# Altium footprint library CSCE2580 Series.PcbLib: 1 footprints
Each footprint in its own frame and in the unit in brackets; x right, y up, seen from the top. Pads: shape width x height; smd on the part's side, far side on the other; paste and mask are expansions set on the pad; w line width, h text height; cw(c..) or ccw(c..) is an arc to the next point about the centre after c.
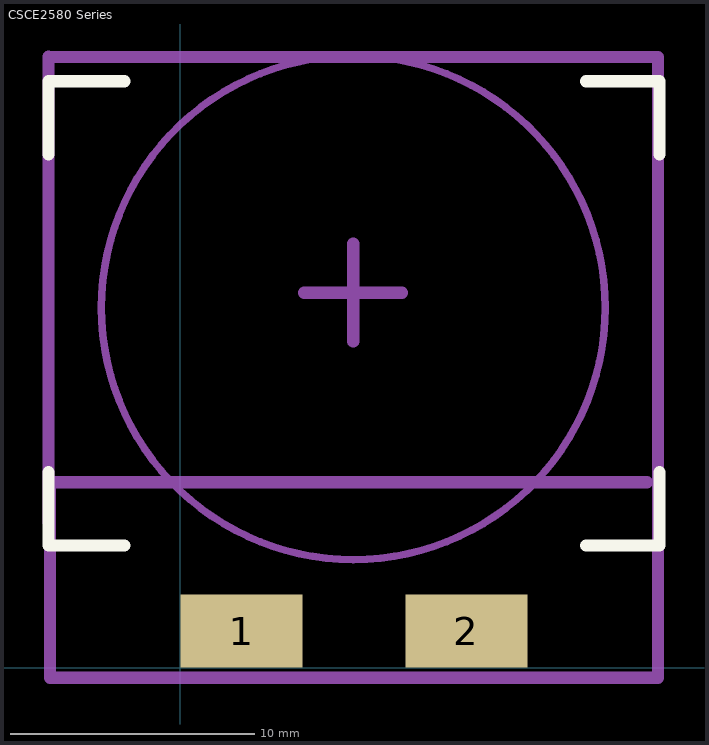
[diagram p0: the footprint, top view; thin cyan lines are the x and y axes]

## CSCE2580 Series [mm] "High Current Power inductor"
height 8.4
pads (2):
  rect 5x3 smd: 1(2.512,1.499) 2(11.712,1.499)
Top Overlay:
  lines w0.5: -5.388,8 -5.388,5 -2.278,5 ; -5.388,21 -5.388,24 -2.278,24 ; 16.612,5 19.612,5 19.612,8 ; 16.612,24 19.612,24 19.612,21
Mechanical 15:
  circle w0.3: c7.085,14.732 r10.311
  lines w0.5: -5.388,5.949 -5.388,25.019 ; -5.388,25 19.558,25 ; 5.079,15.349 9.079,15.349 ; 7.079,13.349 7.079,17.349 ; 19.104,7.595 -5.334,7.595 -5.334,-0.406 13.134,-0.406 19.558,-0.406 19.558,6.97 19.558,24.892
3D body: height 1, standoff 0, extent -0.004,0.031 5.002,5.309
3D body: height 8.4, standoff 0.7, extent -5.285,5.207 19.661,23.724
3D body: height 1, standoff 0, extent 9.14,0.031 14.146,5.309